# Altium schematic symbol library Driver_FET.SchLib: 194 symbols (part 1 of 2)
Pins are listed as number, name and electrical type; pins without a type are passive.

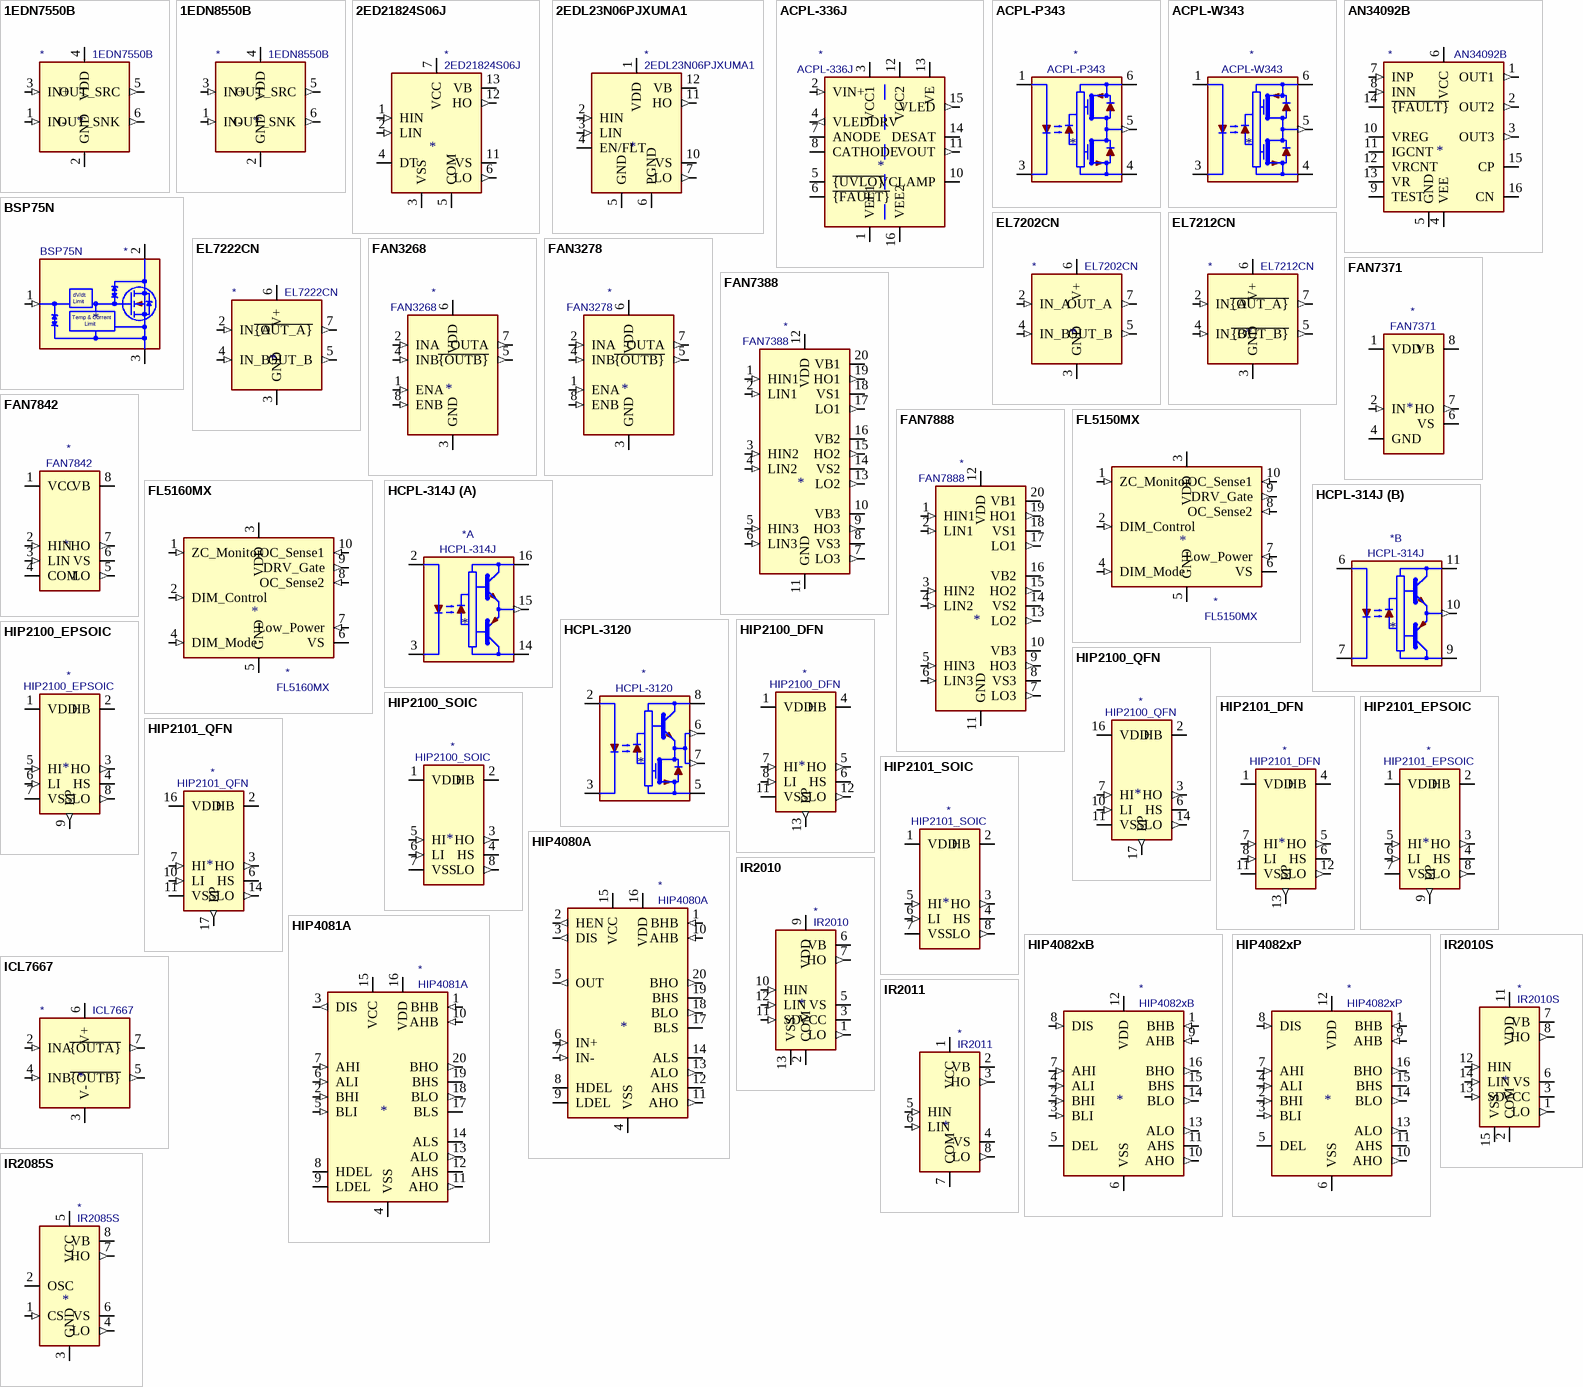
[diagram p0: symbols 1EDN7550B to IR2085S]

## 1EDN7550B
designator *  value 1EDN7550B
ki_keywords: Driver, Dual MOSFET; ki_description: Single-Channel EiceDRIVER With True Differential Inputs, 4V UVLO, +4/-8A, SOT-23-6; ki_fp_filters: SOT?23*; Footprint: Package_TO_SOT_SMD:SOT-23-6; Supplier: https://www.infineon.com/dgdl/Infineon-1EDN7550B-DS-v02_00-EN.pdf?fileId=5546d46262b31d2e01635d9799ef264f
footprint SOT-23-6
pins: 1 IN- (in), 2 GND (power), 3 IN+ (in), 4 VDD (power), 5 OUT_SRC (out), 6 OUT_SNK (out)

## 1EDN8550B
designator *  value 1EDN8550B
ki_keywords: Driver, Dual MOSFET; ki_description: Single-Channel EiceDRIVER With True Differential Inputs, 8V UVLO, +4/-8A, SOT-23-6; ki_fp_filters: SOT?23*; Footprint: Package_TO_SOT_SMD:SOT-23-6; Supplier: https://www.infineon.com/dgdl/Infineon-1EDN7550B-DS-v02_00-EN.pdf?fileId=5546d46262b31d2e01635d9799ef264f
footprint SOT-23-6
pins: 1 IN- (in), 2 GND (power), 3 IN+ (in), 4 VDD (power), 5 OUT_SRC (out), 6 OUT_SNK (out)

## 2ED21824S06J
designator *  value 2ED21824S06J
ki_keywords: Gate Driver MOSFET IGBT; ki_description: 650V Half Bridge Gate Driver with Integrated Bootstrap Diode, 2.5A drive current, SOIC-14; ki_fp_filters: SOIC*3.9x8.7mm*P1.27mm*; Footprint: Package_SO:SOIC-14_3.9x8.7mm_P1.27mm; Supplier: https://www.infineon.com/dgdl/Infineon-2ED2182-4-S06F-J-DataSheet-v02_10-EN.pdf?fileId=5546d4626cb27db2016cb8d7368a29e3
footprint SOIC-14_3.9x8.7mm_P1.27mm
pins: 1 HIN (in), 2 LIN (in), 3 VSS (power), 4 DT, 5 COM (power), 6 LO (out), 7 VCC (power), 8 NC (in) hidden, 9 NC (in) hidden, 10 NC (in) hidden, 11 VS, 12 HO (out), 13 VB, 14 NC (in) hidden

## 2EDL23N06PJXUMA1
designator *  value 2EDL23N06PJXUMA1
ki_keywords: Gate Driver MOSFET IGBT; ki_description: 600V Half Bridge Gate Driver with OCP and Integrated Bootstrap Diode, +1.8A/-2.5A drive current, SOIC-14; ki_fp_filters: SOIC*3.9x8.7mm*P1.27mm*; Footprint: Package_SO:SOIC-14_3.9x8.7mm_P1.27mm; Supplier: https://www.infineon.com/dgdl/Infineon-2EDL23x06xx-DS-v02_01-EN.pdf?fileId=5546d46146d18cb4014738a20c5236f0
footprint SOIC-14_3.9x8.7mm_P1.27mm
pins: 1 VDD (power), 2 HIN (in), 3 LIN (in), 4 EN/FLT (oc), 5 GND (power), 6 PGND (power), 7 LO (out), 8 NC (in) hidden, 9 NC (in) hidden, 10 VS, 11 HO (out), 12 VB, 13 NC (in) hidden, 14 NC (in) hidden

## ACPL-336J
designator *  value ACPL-336J
ki_keywords: Gate Driver IGBT; ki_description: 2.5A Gate Drive Optocoupler with Integrated LED Driver, Active Miller Clamp, DESAT Detection, and Fault & UVLO Status Feedback, SOIC-16; ki_fp_filters: SOIC*7.5x10.3*P1.27mm*; Footprint: Package_SO:SOIC-16W_7.5x10.3mm_P1.27mm; Supplier: https://docs.broadcom.com/docs/AV02-4391EN
footprint SOIC-16W_7.5x10.3mm_P1.27mm
pins: 1 VEE1 (power), 2 VIN+ (in), 3 VCC1 (power), 4 VLEDDRV (out), 5 ~{{UVLO}} (oc), 6 ~{{FAULT}} (oc), 7 ANODE, 8 CATHODE, 9 VEE2 hidden, 10 VCLAMP (io), 11 VOUT (out), 12 VCC2 (power), 13 VE (power), 14 DESAT (io), 15 VLED (out), 16 VEE2 (power)

## ACPL-P343
designator *  value ACPL-P343
ki_keywords: MOSFET Driver IGBT Driver Optocoupler; ki_description: Gate Drive Optocoupler, Output Current 4.0/4.0A, Propagation Delay 200ns, SSO-6; ki_fp_filters: SSO*6.8x4.6mm*P1.27mm*Clearance7mm*; Footprint: Package_SO:SSO-6_6.8x4.6mm_P1.27mm_Clearance7mm; Supplier: https://docs.broadcom.com/docs/AV02-2928EN
footprint SSO-6_6.8x4.6mm_P1.27mm_Clearance7mm
pins: 1 A, 2 NC (in) hidden, 3 C, 4 VEE (power), 5 VO (out), 6 VCC (power)

## ACPL-W343
designator *  value ACPL-W343
ki_keywords: MOSFET Driver IGBT Driver Optocoupler; ki_description: Gate Drive Optocoupler, Output Current 4.0/4.0A, Propagation Delay 200ns, SSO-6; ki_fp_filters: SSO*6.8x4.6mm*P1.27mm*Clearance8mm*; Footprint: Package_SO:SSO-6_6.8x4.6mm_P1.27mm_Clearance8mm; Supplier: http://www.avagotech.com/docs/AV02-2928EN
footprint SSO-6_6.8x4.6mm_P1.27mm_Clearance8mm
pins: 1 A, 2 NC (in) hidden, 3 C, 4 VEE (power), 5 VO (out), 6 VCC (power)

## AN34092B
designator *  value AN34092B
ki_keywords: GaN Gate Driver; ki_description: Single-Channel GaN-Tr High-Speed Gate Driver, Output Current 6.0A, 24V, -5V Negative Gate Voltage, HQFN-16; ki_fp_filters: Panasonic*HQFN*1EP*4x4mm*P0.65mm*EP2.9x2.9mm*; Footprint: Package_DFN_QFN:Panasonic_HQFN-16-1EP_4x4mm_P0.65mm_EP2.9x2.9mm; Supplier: https://industrial.panasonic.com/content/data/SC/ds/ds4/AN34092B_E.pdf
footprint Panasonic_HQFN-16-1EP_4x4mm_P0.65mm_EP2.9x2.9mm
pins: 1 OUT1 (out), 2 OUT2 (out), 3 OUT3 (out), 4 VEE (power), 5 GND (power), 6 VCC (power), 7 INP (in), 8 INN (in), 9 TEST, 10 VREG, 11 IGCNT, 12 VRCNT, 13 VR, 14 ~{{FAULT}} (oc), 15 CP, 16 CN, 17 GND hidden

## BSP75N
designator *  value BSP75N
ki_keywords: MOSFET ESD Overcurrent; ki_description: Self-Protected Low Side Driver with Temperature and Current Limit, SOT−223; ki_fp_filters: SOT?223*; Footprint: Package_TO_SOT_SMD:SOT-223; Supplier: https://www.infineon.com/dgdl/Infineon-BSP75N-DS-v01_04-en.pdf?fileId=db3a30431ed1d7b2011f471f5a0256d1
footprint SOT-223
pins: 1 G (in), 2 D, 3 S, 4 S hidden
text: dV/dt; Limit; Temp & Current

## EL7202CN
designator *  value EL7202CN
ki_keywords: Driver, Dual MOSFET; ki_description: High Speed, Dual Channel Power MOSFET Driver, DIP-8/SOIC-8; ki_fp_filters: DIP*W7.62mm* SOIC*3.9x4.9mm*P1.27mm*; Supplier: http://www.intersil.com/content/dam/Intersil/documents/el72/el7202-12-22.pdf
pins: 1 NC (in) hidden, 2 IN_A (in), 3 GND (power), 4 IN_B (in), 5 OUT_B (out), 6 V+ (power), 7 OUT_A (out), 8 NC (in) hidden

## EL7212CN
designator *  value EL7212CN
ki_keywords: Driver, Dual MOSFET; ki_description: High Speed, Dual Channel Power MOSFET Driver, DIP-8/SOIC-8; ki_fp_filters: DIP*W7.62mm* SOIC*P1.27mm*; Supplier: http://www.intersil.com/content/dam/Intersil/documents/el72/el7202-12-22.pdf
pins: 1 NC (in) hidden, 2 IN_A (in), 3 GND (power), 4 IN_B (in), 5 ~{{OUT_B}} (out), 6 V+ (power), 7 ~{{OUT_A}} (out), 8 NC (in) hidden

## EL7222CN
designator *  value EL7222CN
ki_keywords: Driver, Dual MOSFET; ki_description: High Speed, Dual Channel Power MOSFET Driver, DIP-8/SOIC-8; ki_fp_filters: DIP*W7.62mm* SOIC*P1.27mm*; Supplier: http://www.intersil.com/content/dam/Intersil/documents/el72/el7202-12-22.pdf
pins: 1 NC (in) hidden, 2 IN_A (in), 3 GND (power), 4 IN_B (in), 5 OUT_B (out), 6 V+ (power), 7 ~{{OUT_A}} (out), 8 NC (in) hidden

## FAN3268
designator *  value FAN3268
ki_keywords: Driver MOSFET; ki_description: Low-Voltage 18V PMOS-NMOS Bridge Driver, SOIC-8; ki_fp_filters: *SOIC*3.9x4.9mm*P1.27mm*; Footprint: Package_SO:SOIC-8_3.9x4.9mm_P1.27mm; Supplier: http://www.onsemi.com/pub/Collateral/FAN3268T_F085-D.PDF
footprint SOIC-8_3.9x4.9mm_P1.27mm
pins: 1 ENA (in), 2 INA (in), 3 GND (power), 4 INB (in), 5 ~{{OUTB}} (out), 6 VDD (power), 7 OUTA (out), 8 ENB (in)

## FAN3278
designator *  value FAN3278
ki_keywords: Driver MOSFET; ki_description: 8-27V PMOS-NMOS Bridge Driver, SOIC-8; ki_fp_filters: *SOIC*3.9x4.9mm*P1.27mm*; Footprint: Package_SO:SOIC-8_3.9x4.9mm_P1.27mm; Supplier: https://www.onsemi.com/pub/Collateral/FAN3278-D.pdf
footprint SOIC-8_3.9x4.9mm_P1.27mm
pins: 1 ENA (in), 2 INA (in), 3 GND (power), 4 INB (in), 5 ~{{OUTB}} (out), 6 VDD (power), 7 OUTA (out), 8 ENB (in)

## FAN7371
designator *  value FAN7371
ki_keywords: high-side gate driver; ki_description: High-Current High-Side Gate Driver, 600V Vs, 4A Io, SOIC-8; ki_fp_filters: SOIC*3.9x4.9mm*P1.27mm*; Footprint: Package_SO:SOIC-8_3.9x4.9mm_P1.27mm; Supplier: https://www.onsemi.com/pub/Collateral/FAN7371-D.pdf
footprint SOIC-8_3.9x4.9mm_P1.27mm
pins: 1 VDD (power), 2 IN (in), 3 NC (in) hidden, 4 GND (power), 5 NC (in) hidden, 6 VS, 7 HO (out), 8 VB

## FAN7388
designator *  value FAN7388
ki_keywords: 3 Phase Gate Driver; ki_description: 3 Half-Bridge Gate-Drive IC, 600V operation, Output Current 350/650mA, SOIC-20; ki_fp_filters: SOIC*7.5x12.8*P1.27mm*; Footprint: Package_SO:SOIC-20W_7.5x12.8mm_P1.27mm; Supplier: https://www.onsemi.com/pub/Collateral/FAN7388-D.pdf
footprint SOIC-20W_7.5x12.8mm_P1.27mm
pins: 1 HIN1 (in), 2 LIN1 (in), 3 HIN2 (in), 4 LIN2 (in), 5 HIN3 (in), 6 LIN3 (in), 7 LO3 (out), 8 VS3, 9 HO3 (out), 10 VB3, 11 GND (power), 12 VDD (power), 13 LO2 (out), 14 VS2, 15 HO2 (out), 16 VB2, 17 LO1 (out), 18 VS1, 19 HO1 (out), 20 VB1

## FAN7842
designator *  value FAN7842
ki_keywords: Gate Driver; ki_description: High and Low Side Gate Driver, 200V operation, Output Current 350/650mA, SOIC-8; ki_fp_filters: SOIC*3.9x4.9mm*P1.27mm*; Footprint: Package_SO:SOIC-8_3.9x4.9mm_P1.27mm; Supplier: http://www.onsemi.com/pub/Collateral/FAN7842-D.pdf
footprint SOIC-8_3.9x4.9mm_P1.27mm
pins: 1 VCC (power), 2 HIN (in), 3 LIN (in), 4 COM (power), 5 LO (out), 6 VS, 7 HO (out), 8 VB

## FAN7888
designator *  value FAN7888
ki_keywords: 3 Phase Gate Driver; ki_description: 3 Half-Bridge Gate-Drive IC, 200V operation, Output Current 350/650mA, SOIC-20; ki_fp_filters: SOIC*7.5x12.8*P1.27mm*; Footprint: Package_SO:SOIC-20W_7.5x12.8mm_P1.27mm; Supplier: http://www.onsemi.com/pub/Collateral/FAN7888-D.pdf
footprint SOIC-20W_7.5x12.8mm_P1.27mm
pins: 1 HIN1 (in), 2 LIN1 (in), 3 HIN2 (in), 4 LIN2 (in), 5 HIN3 (in), 6 LIN3 (in), 7 LO3 (out), 8 VS3, 9 HO3 (out), 10 VB3, 11 GND (power), 12 VDD (power), 13 LO2 (out), 14 VS2, 15 HO2 (out), 16 VB2, 17 LO1 (out), 18 VS1, 19 HO1 (out), 20 VB1

## FL5150MX
designator *  value FL5150MX
ki_keywords: dimmer; ki_description: IGBT and MOSFET, AC Phase Cut, Dimmer Controller, SSOP-10; ki_fp_filters: SSOP?10?3.9x4.9mm*1.00mm*; Footprint: Package_SO:SSOP-10_3.9x4.9mm_P1.00mm; Supplier: https://www.onsemi.com/pub/Collateral/FL5150-D.pdf
footprint SSOP-10_3.9x4.9mm_P1.00mm
pins: 1 ZC_Monitor (in), 2 DIM_Control (in), 3 VDD (power), 4 DIM_Mode (in), 5 GND (power), 6 VS (power), 7 Low_Power (in), 8 OC_Sense2 (in), 9 DRV_Gate (out), 10 OC_Sense1 (in)

## FL5160MX
designator *  value FL5160MX
ki_keywords: dimmer; ki_description: IGBT and MOSFET, AC Phase Cut, Dimmer Controller, SSOP-10; ki_fp_filters: SSOP?10?3.9x4.9mm*1.00mm*; Footprint: Package_SO:SSOP-10_3.9x4.9mm_P1.00mm; Supplier: https://www.onsemi.com/pub/Collateral/FL5150-D.pdf
footprint SSOP-10_3.9x4.9mm_P1.00mm
pins: 1 ZC_Monitor (in), 2 DIM_Control (in), 3 VDD (power), 4 DIM_Mode (in), 5 GND (power), 6 VS (power), 7 Low_Power (in), 8 OC_Sense2 (in), 9 DRV_Gate (out), 10 OC_Sense1 (in)

## HCPL-314J
designator *  value HCPL-314J
ki_keywords: MOSFET Driver IGBT Driver Optocoupler; ki_description: Gate Drive Optocoupler, Output Current 0.4/0.4A, SOIC-16(12); ki_fp_filters: SOIC*16*12*7.5x10.3mm*P1.27mm*; Footprint: Package_SO:SOIC-16W-12_7.5x10.3mm_P1.27mm; Supplier: https://docs.broadcom.com/docs/AV02-0169EN
footprint SOIC-16W-12_7.5x10.3mm_P1.27mm
part A pins: 1 NC (in) hidden, 2 A, 3 C, 14 VEE (power), 15 VO (out), 16 VCC (power)
part B pins: 6 A, 7 C, 8 NC (in) hidden, 9 VEE (power), 10 VO (out), 11 VCC (power)

## HCPL-3120
designator *  value HCPL-3120
ki_keywords: MOSFET Driver IGBT Driver Optocoupler; ki_description: Gate Drive Optocoupler, Output Current 2.5/2.5A, PDIP-8; ki_fp_filters: DIP*W7.62mm*; Footprint: Package_DIP:DIP-8_W7.62mm; Supplier: https://docs.broadcom.com/docs/AV02-0161EN
footprint DIP-8_W7.62mm
pins: 1 NC (in) hidden, 2 A, 3 C, 4 NC (in) hidden, 5 VEE (power), 6 VO (out), 7 VO (out), 8 VCC (power)

## HIP2100_DFN
designator *  value HIP2100_DFN
ki_keywords: Half Bridge Gate Driver; ki_description: High Frequency Half Bridge Driver, Output Current 2.0A, 100V, DFN-8; ki_fp_filters: DFN*1EP*4x4mm*P0.5mm*; Footprint: Package_DFN_QFN:DFN-12-1EP_4x4mm_P0.5mm_EP2.66x3.38mm; Supplier: http://www.intersil.com/content/dam/Intersil/documents/hip2/hip2100.pdf
footprint DFN-12-1EP_4x4mm_P0.5mm_EP2.66x3.38mm
pins: 1 VDD (power), 2 NC (in) hidden, 3 NC (in) hidden, 4 HB, 5 HO (out), 6 HS, 7 HI (in), 8 LI (in), 9 NC (in) hidden, 10 NC (in) hidden, 11 VSS (power), 12 LO (out), 13 EP (out)

## HIP2100_EPSOIC
designator *  value HIP2100_EPSOIC
ki_keywords: Half Bridge Gate Driver; ki_description: High Frequency Half Bridge Driver, Output Current 2.0A, 100V, EPSOIC-8; ki_fp_filters: SOIC*1EP*3.9x4.9mm*P1.27mm*; Footprint: Package_SO:SOIC-8-1EP_3.9x4.9mm_P1.27mm_EP2.514x3.2mm; Supplier: http://www.intersil.com/content/dam/Intersil/documents/hip2/hip2100.pdf
footprint SOIC-8-1EP_3.9x4.9mm_P1.27mm_EP2.514x3.2mm
pins: 1 VDD (power), 2 HB, 3 HO (out), 4 HS, 5 HI (in), 6 LI (in), 7 VSS (power), 8 LO (out), 9 EP (out)

## HIP2100_QFN
designator *  value HIP2100_QFN
ki_keywords: Half Bridge Gate Driver; ki_description: High Frequency Half Bridge Driver, Output Current 2.0A, 100V, QFN-16; ki_fp_filters: QFN*1EP*5x5mm*P0.8mm*; Footprint: Package_DFN_QFN:QFN-16-1EP_5x5mm_P0.8mm_EP2.7x2.7mm; Supplier: http://www.intersil.com/content/dam/Intersil/documents/hip2/hip2100.pdf
footprint QFN-16-1EP_5x5mm_P0.8mm_EP2.7x2.7mm
pins: 1 NC (in) hidden, 2 HB, 3 HO (out), 4 NC (in) hidden, 5 NC (in) hidden, 6 HS, 7 HI (in), 8 NC (in) hidden, 9 NC (in) hidden, 10 LI (in), 11 VSS (power), 12 NC (in) hidden, 13 NC (in) hidden, 14 LO (out), 15 NC (in) hidden, 16 VDD (power), 17 EP (out)

## HIP2100_SOIC
designator *  value HIP2100_SOIC
ki_keywords: Half Bridge Gate Driver; ki_description: High Frequency Half Bridge Driver, Output Current 2.0A, 100V, SOIC-8; ki_fp_filters: SOIC*3.9x4.9mm*P1.27mm*; Footprint: Package_SO:SOIC-8_3.9x4.9mm_P1.27mm; Supplier: http://www.intersil.com/content/dam/Intersil/documents/hip2/hip2100.pdf
footprint SOIC-8_3.9x4.9mm_P1.27mm
pins: 1 VDD (power), 2 HB, 3 HO (out), 4 HS, 5 HI (in), 6 LI (in), 7 VSS (power), 8 LO (out)

## HIP2101_DFN
designator *  value HIP2101_DFN
ki_keywords: Half Bridge Gate Driver; ki_description: High Frequency Half Bridge Driver, TTL/CMOS inputs, Output Current 2.0A, 100V, DFN-8; ki_fp_filters: DFN*1EP*4x4mm*P0.5mm*; Footprint: Package_DFN_QFN:DFN-12-1EP_4x4mm_P0.5mm_EP2.66x3.38mm; Supplier: http://www.intersil.com/content/dam/Intersil/documents/hip2/hip2101.pdf
footprint DFN-12-1EP_4x4mm_P0.5mm_EP2.66x3.38mm
pins: 1 VDD (power), 2 NC (in) hidden, 3 NC (in) hidden, 4 HB, 5 HO (out), 6 HS, 7 HI (in), 8 LI (in), 9 NC (in) hidden, 10 NC (in) hidden, 11 VSS (power), 12 LO (out), 13 EP (out)

## HIP2101_EPSOIC
designator *  value HIP2101_EPSOIC
ki_keywords: Half Bridge Gate Driver; ki_description: High Frequency Half Bridge Driver, TTL/CMOS inputs, Output Current 2.0A, 100V, EPSOIC-8; ki_fp_filters: SOIC*1EP*3.9x4.9mm*P1.27mm*; Footprint: Package_SO:SOIC-8-1EP_3.9x4.9mm_P1.27mm_EP2.514x3.2mm; Supplier: http://www.intersil.com/content/dam/Intersil/documents/hip2/hip2101.pdf
footprint SOIC-8-1EP_3.9x4.9mm_P1.27mm_EP2.514x3.2mm
pins: 1 VDD (power), 2 HB, 3 HO (out), 4 HS, 5 HI (in), 6 LI (in), 7 VSS (power), 8 LO (out), 9 EP (out)

## HIP2101_QFN
designator *  value HIP2101_QFN
ki_keywords: Half Bridge Gate Driver; ki_description: High Frequency Half Bridge Driver, TTL/CMOS inputs, Output Current 2.0A, 100V, QFN-16; ki_fp_filters: QFN*1EP*5x5mm*P0.8mm*; Footprint: Package_DFN_QFN:QFN-16-1EP_5x5mm_P0.8mm_EP2.7x2.7mm; Supplier: http://www.intersil.com/content/dam/Intersil/documents/hip2/hip2101.pdf
footprint QFN-16-1EP_5x5mm_P0.8mm_EP2.7x2.7mm
pins: 1 NC (in) hidden, 2 HB, 3 HO (out), 4 NC (in) hidden, 5 NC (in) hidden, 6 HS, 7 HI (in), 8 NC (in) hidden, 9 NC (in) hidden, 10 LI (in), 11 VSS (power), 12 NC (in) hidden, 13 NC (in) hidden, 14 LO (out), 15 NC (in) hidden, 16 VDD (power), 17 EP (out)

## HIP2101_SOIC
designator *  value HIP2101_SOIC
ki_keywords: Half Bridge Gate Driver; ki_description: High Frequency Half Bridge Driver, TTL/CMOS inputs, Output Current 2.0A, 100V, SOIC-8; ki_fp_filters: SOIC*3.9x4.9mm*P1.27mm*; Footprint: Package_SO:SOIC-8_3.9x4.9mm_P1.27mm; Supplier: http://www.intersil.com/content/dam/Intersil/documents/hip2/hip2101.pdf
footprint SOIC-8_3.9x4.9mm_P1.27mm
pins: 1 VDD (power), 2 HB, 3 HO (out), 4 HS, 5 HI (in), 6 LI (in), 7 VSS (power), 8 LO (out)

## HIP4080A
designator *  value HIP4080A
ki_keywords: Half Bridge Gate Driver; ki_description: High Frequency Full Bridge FET Driver, Input Comparator, 2.5A, 80V, DIP-20/SOIC-20; ki_fp_filters: SOIC*7.5x12.8mm*P1.27mm* DIP*W7.62mm*; Supplier: http://www.intersil.com/content/dam/Intersil/documents/hip4/hip4080a.pdf
pins: 1 BHB (in), 2 HEN (out), 3 DIS (out), 4 VSS (power), 5 OUT (out), 6 IN+ (in), 7 IN- (in), 8 HDEL, 9 LDEL, 10 AHB (in), 11 AHO (out), 12 AHS, 13 ALO (out), 14 ALS, 15 VCC (power), 16 VDD (power), 17 BLS, 18 BLO (out), 19 BHS, 20 BHO (out)

## HIP4081A
designator *  value HIP4081A
ki_keywords: Half Bridge Gate Driver; ki_description: High Frequency Full Bridge FET Driver, 2.5A, 80V, DIP-20/SOIC-20; ki_fp_filters: SOIC*7.5x12.8mm*P1.27mm* DIP*W7.62mm*; Supplier: http://www.intersil.com/content/dam/Intersil/documents/hip4/hip4080a.pdf
pins: 1 BHB (in), 2 BHI (in), 3 DIS (out), 4 VSS (power), 5 BLI (in), 6 ALI (in), 7 AHI (in), 8 HDEL, 9 LDEL, 10 AHB (in), 11 AHO (out), 12 AHS, 13 ALO (out), 14 ALS, 15 VCC (power), 16 VDD (power), 17 BLS, 18 BLO (out), 19 BHS, 20 BHO (out)

## HIP4082xB
designator *  value HIP4082xB
ki_keywords: Driver H-bridge; ki_description: 80V, 1.25A Peak Current H-Bridge FET Driver, SOIC-16; ki_fp_filters: SOIC*3.9x9.9mm*P1.27mm*; Footprint: Package_SO:SOIC-16_3.9x9.9mm_P1.27mm; Supplier: https://www.renesas.com/www/doc/datasheet/hip4082.pdf
footprint SOIC-16_3.9x9.9mm_P1.27mm
pins: 1 BHB (in), 2 BHI (in), 3 BLI (in), 4 ALI (in), 5 DEL, 6 VSS (power), 7 AHI (in), 8 DIS (in), 9 AHB (in), 10 AHO (out), 11 AHS, 12 VDD (power), 13 ALO (out), 14 BLO (out), 15 BHS, 16 BHO (out)

## HIP4082xP
designator *  value HIP4082xP
ki_keywords: Driver H-bridge; ki_description: 80V, 1.25A Peak Current H-Bridge FET Driver, DIP-16; ki_fp_filters: DIP*W7.62mm*; Footprint: Package_DIP:DIP-16_W7.62mm; Supplier: https://www.renesas.com/www/doc/datasheet/hip4082.pdf
footprint DIP-16_W7.62mm
pins: 1 BHB (in), 2 BHI (in), 3 BLI (in), 4 ALI (in), 5 DEL, 6 VSS (power), 7 AHI (in), 8 DIS (in), 9 AHB (in), 10 AHO (out), 11 AHS, 12 VDD (power), 13 ALO (out), 14 BLO (out), 15 BHS, 16 BHO (out)

## ICL7667
designator *  value ICL7667
ki_keywords: MOSFET driver array; ki_description: Dual Power MOSFET Driver, DIP-8/SOIC-8; ki_fp_filters: DIP*W7.62mm* SOIC*3.9x4.9mm*P1.27mm*; Supplier: http://www.intersil.com/content/dam/Intersil/documents/icl7/icl7667.pdf
pins: 1 NC (in) hidden, 2 INA (in), 3 V- (power), 4 INB (in), 5 ~{{OUTB}} (out), 6 V+ (power), 7 ~{{OUTA}} (out), 8 NC (in) hidden

## IR2010
designator *  value IR2010
ki_keywords: Gate Driver; ki_description: High and Low Side Driver, 200V, 3.0/3.0A, PDIP-14; ki_fp_filters: DIP*W7.62mm*; Footprint: Package_DIP:DIP-14_W7.62mm; Supplier: https://www.infineon.com/dgdl/ir2010.pdf?fileId=5546d462533600a4015355c48f901660
footprint DIP-14_W7.62mm
pins: 1 LO (out), 2 COM (power), 3 VCC (power), 4 NC (in) hidden, 5 VS, 6 VB, 7 HO (out), 8 NC (in) hidden, 9 VDD (power), 10 HIN (in), 11 SD (in), 12 LIN (in), 13 VSS (power), 14 NC (in) hidden

## IR2010S
designator *  value IR2010S
ki_keywords: Gate Driver; ki_description: High and Low Side Driver, 200V, 3.0/3.0A, SOIC-16W; ki_fp_filters: SOIC*7.5x10.3mm*P1.27mm*; Footprint: Package_SO:SOIC-16W_7.5x10.3mm_P1.27mm; Supplier: https://www.infineon.com/dgdl/ir2010.pdf?fileId=5546d462533600a4015355c48f901660
footprint SOIC-16W_7.5x10.3mm_P1.27mm
pins: 1 LO (out), 2 COM (power), 3 VCC (power), 4 NC (in) hidden, 5 NC (in) hidden, 6 VS, 7 VB, 8 HO (out), 9 NC (in) hidden, 10 NC (in) hidden, 11 VDD (power), 12 HIN (in), 13 SD (in), 14 LIN (in), 15 VSS (power), 16 NC (in) hidden

## IR2011
designator *  value IR2011
ki_keywords: Gate Driver; ki_description: High and Low Side Driver, 200V, 1.0/1.0A, PDIP-8/SOIC-8; ki_fp_filters: SOIC*3.9x4.9mm*P1.27mm* DIP*W7.62mm*; Supplier: https://www.infineon.com/dgdl/ir2011.pdf?fileId=5546d462533600a4015355c49b831663
pins: 1 VCC (power), 2 VB, 3 HO (out), 4 VS, 5 HIN (in), 6 LIN (in), 7 COM (power), 8 LO (out)

## IR2085S
designator *  value IR2085S
ki_keywords: Oscillating Gate Driver; ki_description: High Speed, 100V, Self Oscillating 50% Duty Cycle, Half-Bridge Driver, 1.0/1.0A, SOIC-8; ki_fp_filters: SOIC*3.9x4.9mm*P1.27mm*; Footprint: Package_SO:SOIC-8_3.9x4.9mm_P1.27mm; Supplier: https://www.infineon.com/dgdl/Infineon-IR2085S-DS-v01_02-EN.pdf?fileId=5546d4625b62cd8a015bb0f752184828
footprint SOIC-8_3.9x4.9mm_P1.27mm
pins: 1 CS (in), 2 OSC, 3 GND (power), 4 LO (out), 5 VCC (power), 6 VS, 7 HO (out), 8 VB

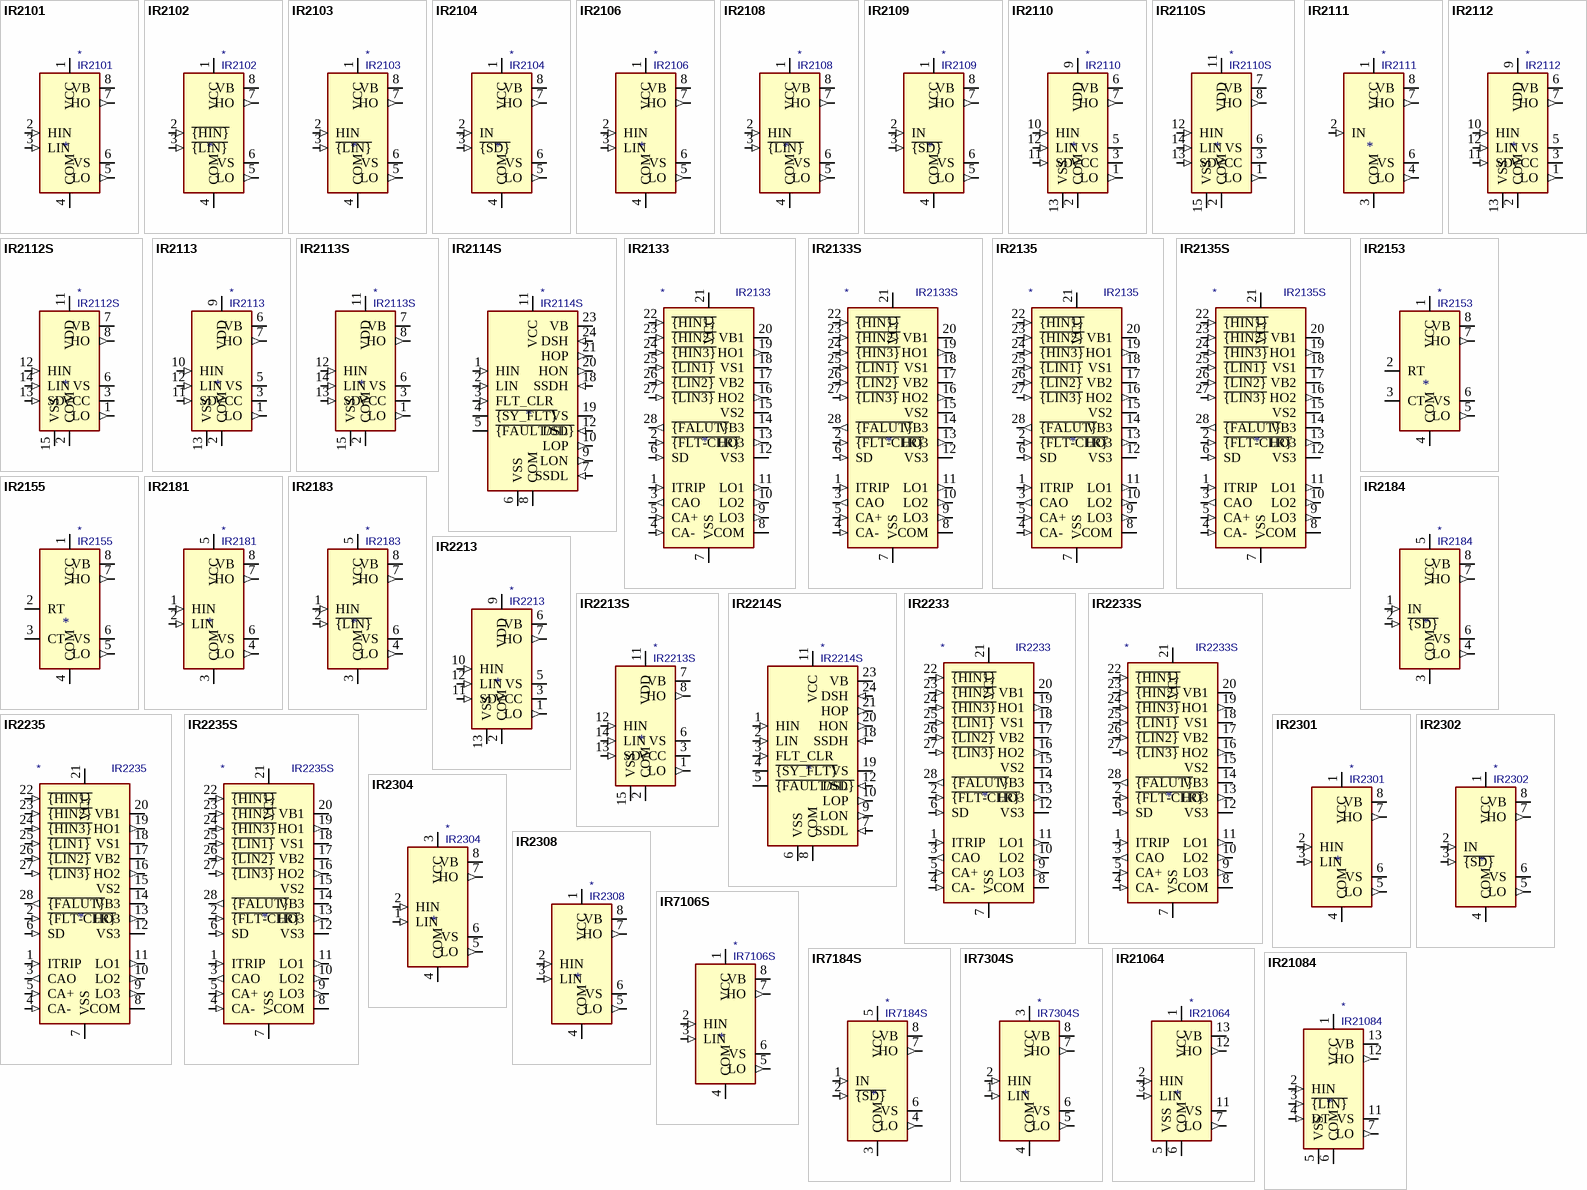
[diagram p1: symbols IR2101 to IR21084]

## IR2101
designator *  value IR2101
ki_keywords: Gate Driver; ki_description: High and Low Side Driver, 600V, 210/360mA, PDIP-8/SOIC-8; ki_fp_filters: SOIC*3.9x4.9mm*P1.27mm* DIP*W7.62mm*; Supplier: https://www.infineon.com/dgdl/ir2101.pdf?fileId=5546d462533600a4015355c7a755166c
pins: 1 VCC (power), 2 HIN (in), 3 LIN (in), 4 COM (power), 5 LO (out), 6 VS, 7 HO (out), 8 VB

## IR2102
designator *  value IR2102
ki_keywords: Gate Driver; ki_description: High and Low Side Driver, 600V, 210/360mA, PDIP-8/SOIC-8; ki_fp_filters: SOIC*3.9x4.9mm*P1.27mm* DIP*W7.62mm*; Supplier: https://www.infineon.com/dgdl/ir2101.pdf?fileId=5546d462533600a4015355c7a755166c
pins: 1 VCC (power), 2 ~{{HIN}} (in), 3 ~{{LIN}} (in), 4 COM (power), 5 LO (out), 6 VS, 7 HO (out), 8 VB

## IR2103
designator *  value IR2103
ki_keywords: Gate Driver; ki_description: Half-Bridge Driver, 600V, 210/360mA, PDIP-8/SOIC-8; ki_fp_filters: SOIC*3.9x4.9mm*P1.27mm* DIP*W7.62mm*; Supplier: https://www.infineon.com/dgdl/ir2103.pdf?fileId=5546d462533600a4015355c7b54b166f
pins: 1 VCC (power), 2 HIN (in), 3 ~{{LIN}} (in), 4 COM (power), 5 LO (out), 6 VS, 7 HO (out), 8 VB

## IR2104
designator *  value IR2104
ki_keywords: Gate Driver; ki_description: Half-Bridge Driver, 600V, 210/360mA, PDIP-8/SOIC-8; ki_fp_filters: SOIC*3.9x4.9mm*P1.27mm* DIP*W7.62mm*; Supplier: https://www.infineon.com/dgdl/ir2104.pdf?fileId=5546d462533600a4015355c7c1c31671
pins: 1 VCC (power), 2 IN (in), 3 ~{{SD}} (in), 4 COM (power), 5 LO (out), 6 VS, 7 HO (out), 8 VB

## IR2106
designator *  value IR2106
ki_keywords: Gate Driver; ki_description: High and Low Side Driver, 600V, 200/350mA, PDIP-8/SOIC-8; ki_fp_filters: SOIC*3.9x4.9mm*P1.27mm* DIP*W7.62mm*; Supplier: https://www.infineon.com/dgdl/ir2106.pdf?fileId=5546d462533600a4015355c7cfc51673
pins: 1 VCC (power), 2 HIN (in), 3 LIN (in), 4 COM (power), 5 LO (out), 6 VS, 7 HO (out), 8 VB

## IR2108
designator *  value IR2108
ki_keywords: Gate Driver; ki_description: Half-Bridge Driver, 600V, 210/350mA, PDIP-8/SOIC-8; ki_fp_filters: SOIC*3.9x4.9mm*P1.27mm* DIP*W7.62mm*; Supplier: https://www.infineon.com/dgdl/ir2108.pdf?fileId=5546d462533600a4015355c7dc321676
pins: 1 VCC (power), 2 HIN (in), 3 ~{{LIN}} (in), 4 COM (power), 5 LO (out), 6 VS, 7 HO (out), 8 VB

## IR2109
designator *  value IR2109
ki_keywords: Gate Driver; ki_description: Half-Bridge Driver, 600V, 200/350mA, PDIP-8/SOIC-8; ki_fp_filters: SOIC*3.9x4.9mm*P1.27mm* DIP*W7.62mm*; Supplier: https://www.infineon.com/dgdl/ir2109.pdf?fileId=5546d462533600a4015355c7e85b1679
pins: 1 VCC (power), 2 IN (in), 3 ~{{SD}} (in), 4 COM (power), 5 LO (out), 6 VS, 7 HO (out), 8 VB

## IR2110
designator *  value IR2110
ki_keywords: Gate Driver; ki_description: High and Low Side Driver, 500V, 2.0/2.0A, PDIP-14; ki_fp_filters: DIP*W7.62mm*; Footprint: Package_DIP:DIP-14_W7.62mm; Supplier: https://www.infineon.com/dgdl/ir2110.pdf?fileId=5546d462533600a4015355c80333167e
footprint DIP-14_W7.62mm
pins: 1 LO (out), 2 COM (power), 3 VCC (power), 4 NC (in) hidden, 5 VS, 6 VB, 7 HO (out), 8 NC (in) hidden, 9 VDD (power), 10 HIN (in), 11 SD (in), 12 LIN (in), 13 VSS (power), 14 NC (in) hidden

## IR2110S
designator *  value IR2110S
ki_keywords: Gate Driver; ki_description: High and Low Side Driver, 500V, 2.0/2.0A, SOIC-16W; ki_fp_filters: SOIC*7.5x10.3mm*P1.27mm*; Footprint: Package_SO:SOIC-16W_7.5x10.3mm_P1.27mm; Supplier: https://www.infineon.com/dgdl/ir2110.pdf?fileId=5546d462533600a4015355c80333167e
footprint SOIC-16W_7.5x10.3mm_P1.27mm
pins: 1 LO (out), 2 COM (power), 3 VCC (power), 4 NC (in) hidden, 5 NC (in) hidden, 6 VS, 7 VB, 8 HO (out), 9 NC (in) hidden, 10 NC (in) hidden, 11 VDD (power), 12 HIN (in), 13 SD (in), 14 LIN (in), 15 VSS (power), 16 NC (in) hidden

## IR2111
designator *  value IR2111
ki_keywords: Gate Driver; ki_description: Half-Bridge Driver, 600V, 250/500mA, PDIP-8/SOIC-8; ki_fp_filters: SOIC*3.9x4.9mm*P1.27mm* DIP*W7.62mm*; Supplier: https://www.infineon.com/dgdl/ir2111.pdf?fileId=5546d462533600a4015355c810e51682
pins: 1 VCC (power), 2 IN (in), 3 COM (power), 4 LO (out), 5 NC (in) hidden, 6 VS, 7 HO (out), 8 VB

## IR2112
designator *  value IR2112
ki_keywords: Gate Driver; ki_description: High and Low Side Driver, 600V, 250/500mA, PDIP-14; ki_fp_filters: DIP*W7.62mm*; Footprint: Package_DIP:DIP-14_W7.62mm; Supplier: https://www.infineon.com/dgdl/ir2112.pdf?fileId=5546d462533600a4015355c81cb71685
footprint DIP-14_W7.62mm
pins: 1 LO (out), 2 COM (power), 3 VCC (power), 4 NC (in) hidden, 5 VS, 6 VB, 7 HO (out), 8 NC (in) hidden, 9 VDD (power), 10 HIN (in), 11 SD (in), 12 LIN (in), 13 VSS (power), 14 NC (in) hidden

## IR2112S
designator *  value IR2112S
ki_keywords: Gate Driver; ki_description: High and Low Side Driver, 500V, 250/500mA, SOIC-16W; ki_fp_filters: SOIC*7.5x10.3mm*P1.27mm*; Footprint: Package_SO:SOIC-16W_7.5x10.3mm_P1.27mm; Supplier: https://www.infineon.com/dgdl/ir2112.pdf?fileId=5546d462533600a4015355c81cb71685
footprint SOIC-16W_7.5x10.3mm_P1.27mm
pins: 1 LO (out), 2 COM (power), 3 VCC (power), 4 NC (in) hidden, 5 NC (in) hidden, 6 VS, 7 VB, 8 HO (out), 9 NC (in) hidden, 10 NC (in) hidden, 11 VDD (power), 12 HIN (in), 13 SD (in), 14 LIN (in), 15 VSS (power), 16 NC (in) hidden

## IR2113
designator *  value IR2113
ki_keywords: Gate Driver; ki_description: High and Low Side Driver, 600V, 2.0/2.0A, PDIP-14; ki_fp_filters: DIP*W7.62mm*; Footprint: Package_DIP:DIP-14_W7.62mm; Supplier: https://www.infineon.com/dgdl/ir2110.pdf?fileId=5546d462533600a4015355c80333167e
footprint DIP-14_W7.62mm
pins: 1 LO (out), 2 COM (power), 3 VCC (power), 4 NC (in) hidden, 5 VS, 6 VB, 7 HO (out), 8 NC (in) hidden, 9 VDD (power), 10 HIN (in), 11 SD (in), 12 LIN (in), 13 VSS (power), 14 NC (in) hidden

## IR2113S
designator *  value IR2113S
ki_keywords: Gate Driver; ki_description: High and Low Side Driver, 500V, 2.0/2.0A, SOIC-16W; ki_fp_filters: SOIC*7.5x10.3mm*P1.27mm*; Footprint: Package_SO:SOIC-16W_7.5x10.3mm_P1.27mm; Supplier: https://www.infineon.com/dgdl/ir2110.pdf?fileId=5546d462533600a4015355c80333167e
footprint SOIC-16W_7.5x10.3mm_P1.27mm
pins: 1 LO (out), 2 COM (power), 3 VCC (power), 4 NC (in) hidden, 5 NC (in) hidden, 6 VS, 7 VB, 8 HO (out), 9 NC (in) hidden, 10 NC (in) hidden, 11 VDD (power), 12 HIN (in), 13 SD (in), 14 LIN (in), 15 VSS (power), 16 NC (in) hidden

## IR2114S
designator *  value IR2114S
ki_keywords: Gate Driver; ki_description: Half-Bridge Gate Driver IC, 600V, 1.0/1.5A, SSOP-24; ki_fp_filters: SSOP*5.3x8.2mm*P0.65mm*; Footprint: Package_SO:SSOP-24_5.3x8.2mm_P0.65mm; Supplier: https://www.infineon.com/dgdl/ir2114ss.pdf?fileId=5546d462533600a4015355c836cd168a
footprint SSOP-24_5.3x8.2mm_P0.65mm
pins: 1 HIN (in), 2 LIN (in), 3 FLT_CLR (in), 4 ~{{SY_FLT}} (io), 5 ~{{FAULT/SD}} (io), 6 VSS (power), 7 SSDL (in), 8 COM (power), 9 LON (out), 10 LOP (out), 11 VCC (power), 12 DSL (in), 13 NC (in) hidden, 14 NC (in) hidden, 15 NC (in) hidden, 16 NC (in) hidden, 17 NC (in) hidden, 18 SSDH (in), 19 VS, 20 HON (out), 21 HOP (out), 22 NC (in) hidden, 23 VB, 24 DSH (in)

## IR2133
designator *  value IR2133
ki_keywords: 3 Phase Gate Driver; ki_description: 600V, Vout 10-20V, PDIP-28; ki_fp_filters: DIP*W15.24mm*; Footprint: Package_DIP:DIP-28_W15.24mm; Supplier: https://www.infineon.com/dgdl/Infineon-IR2x33-IR2x35-DataSheet-v01_00-EN.pdf?fileId=5546d462533600a4015355c890ba169f
footprint DIP-28_W15.24mm
pins: 1 ITRIP (in), 2 ~{{FLT-CLR}} (in), 3 CAO (out), 4 CA- (in), 5 CA+ (in), 6 SD (in), 7 VSS (power), 8 COM, 9 LO3 (out), 10 LO2 (out), 11 LO1 (out), 12 VS3, 13 HO3 (out), 14 VB3, 15 VS2, 16 HO2 (out), 17 VB2, 18 VS1, 19 HO1 (out), 20 VB1, 21 VCC (power), 22 ~{{HIN1}} (in), 23 ~{{HIN2}} (in), 24 ~{{HIN3}} (in), 25 ~{{LIN1}} (in), 26 ~{{LIN2}} (in), 27 ~{{LIN3}} (in), 28 ~{{FALUT}} (out)

## IR2133S
designator *  value IR2133S
ki_keywords: 3 Phase Gate Driver; ki_description: 600V, Vout 10-20V, SOIC-28; ki_fp_filters: SOIC*7.5x17.9mm*P1.27mm*; Footprint: Package_SO:SOIC-28W_7.5x17.9mm_P1.27mm; Supplier: https://www.infineon.com/dgdl/Infineon-IR2x33-IR2x35-DataSheet-v01_00-EN.pdf?fileId=5546d462533600a4015355c890ba169f
footprint SOIC-28W_7.5x17.9mm_P1.27mm
pins: 1 ITRIP (in), 2 ~{{FLT-CLR}} (in), 3 CAO (out), 4 CA- (in), 5 CA+ (in), 6 SD (in), 7 VSS (power), 8 COM, 9 LO3 (out), 10 LO2 (out), 11 LO1 (out), 12 VS3, 13 HO3 (out), 14 VB3, 15 VS2, 16 HO2 (out), 17 VB2, 18 VS1, 19 HO1 (out), 20 VB1, 21 VCC (power), 22 ~{{HIN1}} (in), 23 ~{{HIN2}} (in), 24 ~{{HIN3}} (in), 25 ~{{LIN1}} (in), 26 ~{{LIN2}} (in), 27 ~{{LIN3}} (in), 28 ~{{FALUT}} (out)

## IR2135
designator *  value IR2135
ki_keywords: 3 Phase Gate Driver; ki_description: 600V, Vout 12-20V, PDIP-28; ki_fp_filters: DIP*W15.24mm*; Footprint: Package_DIP:DIP-28_W15.24mm; Supplier: https://www.infineon.com/dgdl/Infineon-IR2x33-IR2x35-DataSheet-v01_00-EN.pdf?fileId=5546d462533600a4015355c890ba169f
footprint DIP-28_W15.24mm
pins: 1 ITRIP (in), 2 ~{{FLT-CLR}} (in), 3 CAO (out), 4 CA- (in), 5 CA+ (in), 6 SD (in), 7 VSS (power), 8 COM, 9 LO3 (out), 10 LO2 (out), 11 LO1 (out), 12 VS3, 13 HO3 (out), 14 VB3, 15 VS2, 16 HO2 (out), 17 VB2, 18 VS1, 19 HO1 (out), 20 VB1, 21 VCC (power), 22 ~{{HIN1}} (in), 23 ~{{HIN2}} (in), 24 ~{{HIN3}} (in), 25 ~{{LIN1}} (in), 26 ~{{LIN2}} (in), 27 ~{{LIN3}} (in), 28 ~{{FALUT}} (out)

## IR2135S
designator *  value IR2135S
ki_keywords: 3 Phase Gate Driver; ki_description: 600V, Vout 12-20V, SOIC-28; ki_fp_filters: SOIC*7.5x17.9mm*P1.27mm*; Footprint: Package_SO:SOIC-28W_7.5x17.9mm_P1.27mm; Supplier: https://www.infineon.com/dgdl/Infineon-IR2x33-IR2x35-DataSheet-v01_00-EN.pdf?fileId=5546d462533600a4015355c890ba169f
footprint SOIC-28W_7.5x17.9mm_P1.27mm
pins: 1 ITRIP (in), 2 ~{{FLT-CLR}} (in), 3 CAO (out), 4 CA- (in), 5 CA+ (in), 6 SD (in), 7 VSS (power), 8 COM, 9 LO3 (out), 10 LO2 (out), 11 LO1 (out), 12 VS3, 13 HO3 (out), 14 VB3, 15 VS2, 16 HO2 (out), 17 VB2, 18 VS1, 19 HO1 (out), 20 VB1, 21 VCC (power), 22 ~{{HIN1}} (in), 23 ~{{HIN2}} (in), 24 ~{{HIN3}} (in), 25 ~{{LIN1}} (in), 26 ~{{LIN2}} (in), 27 ~{{LIN3}} (in), 28 ~{{FALUT}} (out)

## IR2153
designator *  value IR2153
ki_keywords: Oscillating Gate Driver; ki_description: Self-Oscillating Half-Bridge Driver, 600V, PDIP-8/SOIC-8; ki_fp_filters: SOIC*3.9x4.9mm*P1.27mm* DIP*W7.62mm*; Supplier: https://www.infineon.com/dgdl/ir2153.pdf?fileId=5546d462533600a4015355c8c5fc16af
pins: 1 VCC (power), 2 RT, 3 CT, 4 COM (power), 5 LO (out), 6 VS, 7 HO (out), 8 VB

## IR2155
designator *  value IR2155
ki_keywords: Oscillating Gate Driver; ki_description: Self-Oscillating Half-Bridge Driver, 600V, 250/500mA, PDIP-8/SOIC-8; ki_fp_filters: SOIC*3.9x4.9mm*P1.27mm* DIP*W7.62mm*; Supplier: https://www.infineon.com/dgdl/ir2155.pdf?fileId=5546d462533600a4015355c8dec316b6
pins: 1 VCC (power), 2 RT, 3 CT, 4 COM (power), 5 LO (out), 6 VS, 7 HO (out), 8 VB

## IR2181
designator *  value IR2181
ki_keywords: Gate Driver; ki_description: High and Low Side Driver, 600V, 1.4/1.8A, PDIP-8/SOIC-8; ki_fp_filters: SOIC*3.9x4.9mm*P1.27mm* DIP*W7.62mm*; Supplier: https://www.infineon.com/dgdl/ir2181.pdf?fileId=5546d462533600a4015355c93cdd16ce
pins: 1 HIN (in), 2 LIN (in), 3 COM (power), 4 LO (out), 5 VCC (power), 6 VS, 7 HO (out), 8 VB

## IR2183
designator *  value IR2183
ki_keywords: Gate Driver; ki_description: Half-Bridge Driver, 600V, 1.4/1.8A, PDIP-8/SOIC-8; ki_fp_filters: SOIC*3.9x4.9mm*P1.27mm* DIP*W7.62mm*; Supplier: https://www.infineon.com/dgdl/ir2183.pdf?fileId=5546d462533600a4015355c9490e16d1
pins: 1 HIN (in), 2 ~{{LIN}} (in), 3 COM (power), 4 LO (out), 5 VCC (power), 6 VS, 7 HO (out), 8 VB

## IR2184
designator *  value IR2184
ki_keywords: Gate Driver; ki_description: Half-Bridge Driver, 600V, 1.4/1.8A, PDIP-8/SOIC-8; ki_fp_filters: SOIC*3.9x4.9mm*P1.27mm* DIP*W7.62mm*; Supplier: https://www.infineon.com/dgdl/ir2184.pdf?fileId=5546d462533600a4015355c955e616d4
pins: 1 IN (in), 2 ~{{SD}} (in), 3 COM (power), 4 LO (out), 5 VCC (power), 6 VS, 7 HO (out), 8 VB

## IR2213
designator *  value IR2213
ki_keywords: Gate Driver; ki_description: High and Low Side Driver, 1200V, 1.7/2.0A, PDIP-14; ki_fp_filters: DIP*W7.62mm*; Footprint: Package_DIP:DIP-14_W7.62mm; Supplier: https://www.infineon.com/dgdl/Infineon-IR2213-DS-v00_02-EN.pdf?fileId=5546d462533600a4015355c9621716d8
footprint DIP-14_W7.62mm
pins: 1 LO (out), 2 COM (power), 3 VCC (power), 4 NC (in) hidden, 5 VS, 6 VB, 7 HO (out), 8 NC (in) hidden, 9 VDD (power), 10 HIN (in), 11 SD (in), 12 LIN (in), 13 VSS (power), 14 NC (in) hidden

## IR2213S
designator *  value IR2213S
ki_keywords: Gate Driver; ki_description: High and Low Side Driver, 1200V, 1.7/2.0A, SOIC-16W; ki_fp_filters: SOIC*7.5x10.3mm*P1.27mm*; Footprint: Package_SO:SOIC-16W_7.5x10.3mm_P1.27mm; Supplier: https://www.infineon.com/dgdl/Infineon-IR2213-DS-v00_02-EN.pdf?fileId=5546d462533600a4015355c9621716d8
footprint SOIC-16W_7.5x10.3mm_P1.27mm
pins: 1 LO (out), 2 COM (power), 3 VCC (power), 4 NC (in) hidden, 5 NC (in) hidden, 6 VS, 7 VB, 8 HO (out), 9 NC (in) hidden, 10 NC (in) hidden, 11 VDD (power), 12 HIN (in), 13 SD (in), 14 LIN (in), 15 VSS (power), 16 NC (in) hidden

## IR2214S
designator *  value IR2214S
ki_keywords: Gate Driver; ki_description: Half-Bridge Gate Driver IC, 1200V, 1.0/1.5A, SSOP-24; ki_fp_filters: SSOP*5.3x8.2mm*P0.65mm*; Footprint: Package_SO:SSOP-24_5.3x8.2mm_P0.65mm; Supplier: https://www.infineon.com/dgdl/ir2114ss.pdf?fileId=5546d462533600a4015355c836cd168a
footprint SSOP-24_5.3x8.2mm_P0.65mm
pins: 1 HIN (in), 2 LIN (in), 3 FLT_CLR (in), 4 ~{{SY_FLT}} (io), 5 ~{{FAULT/SD}} (io), 6 VSS (power), 7 SSDL (in), 8 COM (power), 9 LON (out), 10 LOP (out), 11 VCC (power), 12 DSL (in), 13 NC (in) hidden, 14 NC (in) hidden, 15 NC (in) hidden, 16 NC (in) hidden, 17 NC (in) hidden, 18 SSDH (in), 19 VS, 20 HON (out), 21 HOP (out), 22 NC (in) hidden, 23 VB, 24 DSH (in)

## IR2233
designator *  value IR2233
ki_keywords: 3 Phase Gate Driver; ki_description: 1200V, Vout 10-20V, PDIP-28; ki_fp_filters: DIP*W15.24mm*; Footprint: Package_DIP:DIP-28_W15.24mm; Supplier: https://www.infineon.com/dgdl/Infineon-IR2x33-IR2x35-DataSheet-v01_00-EN.pdf?fileId=5546d462533600a4015355c890ba169f
footprint DIP-28_W15.24mm
pins: 1 ITRIP (in), 2 ~{{FLT-CLR}} (in), 3 CAO (out), 4 CA- (in), 5 CA+ (in), 6 SD (in), 7 VSS (power), 8 COM, 9 LO3 (out), 10 LO2 (out), 11 LO1 (out), 12 VS3, 13 HO3 (out), 14 VB3, 15 VS2, 16 HO2 (out), 17 VB2, 18 VS1, 19 HO1 (out), 20 VB1, 21 VCC (power), 22 ~{{HIN1}} (in), 23 ~{{HIN2}} (in), 24 ~{{HIN3}} (in), 25 ~{{LIN1}} (in), 26 ~{{LIN2}} (in), 27 ~{{LIN3}} (in), 28 ~{{FALUT}} (out)

## IR2233S
designator *  value IR2233S
ki_keywords: 3 Phase Gate Driver; ki_description: 1200V, Vout 10-20V, SOIC-28; ki_fp_filters: SOIC*7.5x17.9mm*P1.27mm*; Footprint: Package_SO:SOIC-28W_7.5x17.9mm_P1.27mm; Supplier: https://www.infineon.com/dgdl/Infineon-IR2x33-IR2x35-DataSheet-v01_00-EN.pdf?fileId=5546d462533600a4015355c890ba169f
footprint SOIC-28W_7.5x17.9mm_P1.27mm
pins: 1 ITRIP (in), 2 ~{{FLT-CLR}} (in), 3 CAO (out), 4 CA- (in), 5 CA+ (in), 6 SD (in), 7 VSS (power), 8 COM, 9 LO3 (out), 10 LO2 (out), 11 LO1 (out), 12 VS3, 13 HO3 (out), 14 VB3, 15 VS2, 16 HO2 (out), 17 VB2, 18 VS1, 19 HO1 (out), 20 VB1, 21 VCC (power), 22 ~{{HIN1}} (in), 23 ~{{HIN2}} (in), 24 ~{{HIN3}} (in), 25 ~{{LIN1}} (in), 26 ~{{LIN2}} (in), 27 ~{{LIN3}} (in), 28 ~{{FALUT}} (out)

## IR2235
designator *  value IR2235
ki_keywords: 3 Phase Gate Driver; ki_description: 1200V, Vout 12-20V, PDIP-28; ki_fp_filters: DIP*W15.24mm*; Footprint: Package_DIP:DIP-28_W15.24mm; Supplier: https://www.infineon.com/dgdl/Infineon-IR2x33-IR2x35-DataSheet-v01_00-EN.pdf?fileId=5546d462533600a4015355c890ba169f
footprint DIP-28_W15.24mm
pins: 1 ITRIP (in), 2 ~{{FLT-CLR}} (in), 3 CAO (out), 4 CA- (in), 5 CA+ (in), 6 SD (in), 7 VSS (power), 8 COM, 9 LO3 (out), 10 LO2 (out), 11 LO1 (out), 12 VS3, 13 HO3 (out), 14 VB3, 15 VS2, 16 HO2 (out), 17 VB2, 18 VS1, 19 HO1 (out), 20 VB1, 21 VCC (power), 22 ~{{HIN1}} (in), 23 ~{{HIN2}} (in), 24 ~{{HIN3}} (in), 25 ~{{LIN1}} (in), 26 ~{{LIN2}} (in), 27 ~{{LIN3}} (in), 28 ~{{FALUT}} (out)

## IR2235S
designator *  value IR2235S
ki_keywords: 3 Phase Gate Driver; ki_description: 1200V, Vout 12-20V, SOIC-28; ki_fp_filters: SOIC*7.5x17.9mm*P1.27mm*; Footprint: Package_SO:SOIC-28W_7.5x17.9mm_P1.27mm; Supplier: https://www.infineon.com/dgdl/Infineon-IR2x33-IR2x35-DataSheet-v01_00-EN.pdf?fileId=5546d462533600a4015355c890ba169f
footprint SOIC-28W_7.5x17.9mm_P1.27mm
pins: 1 ITRIP (in), 2 ~{{FLT-CLR}} (in), 3 CAO (out), 4 CA- (in), 5 CA+ (in), 6 SD (in), 7 VSS (power), 8 COM, 9 LO3 (out), 10 LO2 (out), 11 LO1 (out), 12 VS3, 13 HO3 (out), 14 VB3, 15 VS2, 16 HO2 (out), 17 VB2, 18 VS1, 19 HO1 (out), 20 VB1, 21 VCC (power), 22 ~{{HIN1}} (in), 23 ~{{HIN2}} (in), 24 ~{{HIN3}} (in), 25 ~{{LIN1}} (in), 26 ~{{LIN2}} (in), 27 ~{{LIN3}} (in), 28 ~{{FALUT}} (out)

## IR2301
designator *  value IR2301
ki_keywords: Gate Driver; ki_description: High and Low Side Driver, 600V, 200/350mA, PDIP-8/SOIC-8; ki_fp_filters: SOIC*3.9x4.9mm*P1.27mm* DIP*W7.62mm*; Supplier: https://www.infineon.com/dgdl/ir2301.pdf?fileId=5546d462533600a4015355c97bb216dc
pins: 1 VCC (power), 2 HIN (in), 3 LIN (in), 4 COM (power), 5 LO (out), 6 VS, 7 HO (out), 8 VB

## IR2302
designator *  value IR2302
ki_keywords: Gate Driver; ki_description: Half-Bridge Driver, 600V, 200/350mA, PDIP-8/SOIC-8; ki_fp_filters: SOIC*3.9x4.9mm*P1.27mm* DIP*W7.62mm*; Supplier: https://www.infineon.com/dgdl/ir2302.pdf?fileId=5546d462533600a4015355c988b216de
pins: 1 VCC (power), 2 IN (in), 3 ~{{SD}} (in), 4 COM (power), 5 LO (out), 6 VS, 7 HO (out), 8 VB

## IR2304
designator *  value IR2304
ki_keywords: Gate Driver; ki_description: Half-Bridge Driver, 600V, 60/130mA, PDIP-8/SOIC-8; ki_fp_filters: SOIC*3.9x4.9mm*P1.27mm* DIP*W7.62mm*; Supplier: https://www.infineon.com/dgdl/ir2304.pdf?fileId=5546d462533600a4015355c9954a16e0
pins: 1 LIN (in), 2 HIN (in), 3 VCC (power), 4 COM (power), 5 LO (out), 6 VS, 7 HO (out), 8 VB

## IR2308
designator *  value IR2308
ki_keywords: Gate Driver; ki_description: Half-Bridge Driver, 600V, 200/350mA, PDIP-8/SOIC-8; ki_fp_filters: SOIC*3.9x4.9mm*P1.27mm* DIP*W7.62mm*; Supplier: https://www.infineon.com/dgdl/ir2308.pdf?fileId=5546d462533600a4015355c9a2b816e2
pins: 1 VCC (power), 2 HIN (in), 3 LIN (in), 4 COM (power), 5 LO (out), 6 VS, 7 HO (out), 8 VB

## IR7106S
designator *  value IR7106S
ki_keywords: Gate Driver; ki_description: High and Low Side Driver, 700V, 200/350mA, SOIC-8; ki_fp_filters: SOIC*3.9x4.9mm*P1.27mm*; Footprint: Package_SO:SOIC-8_3.9x4.9mm_P1.27mm; Supplier: https://www.infineon.com/dgdl/ir7106s.pdf?fileId=5546d462533600a4015355d61a06182a
footprint SOIC-8_3.9x4.9mm_P1.27mm
pins: 1 VCC (power), 2 HIN (in), 3 LIN (in), 4 COM (power), 5 LO (out), 6 VS, 7 HO (out), 8 VB

## IR7184S
designator *  value IR7184S
ki_keywords: Gate Driver; ki_description: 700V Half-Bridge Driver, 1.9/2.3A, SOIC-8; ki_fp_filters: SOIC*3.9x4.9mm*P1.27mm*; Footprint: Package_SO:SOIC-8_3.9x4.9mm_P1.27mm; Supplier: https://www.infineon.com/dgdl/ir7184s.pdf?fileId=5546d462533600a4015355d62230182c
footprint SOIC-8_3.9x4.9mm_P1.27mm
pins: 1 IN (in), 2 ~{{SD}} (in), 3 COM (power), 4 LO (out), 5 VCC (power), 6 VS, 7 HO (out), 8 VB

## IR7304S
designator *  value IR7304S
ki_keywords: Gate Driver; ki_description: 700V Half-Bridge Driver, 60/130mA, SOIC-8; ki_fp_filters: SOIC*3.9x4.9mm*P1.27mm*; Footprint: Package_SO:SOIC-8_3.9x4.9mm_P1.27mm; Supplier: https://www.infineon.com/dgdl/ir7304s.pdf?fileId=5546d462533600a4015355d62a63182e
footprint SOIC-8_3.9x4.9mm_P1.27mm
pins: 1 LIN (in), 2 HIN (in), 3 VCC (power), 4 COM (power), 5 LO (out), 6 VS, 7 HO (out), 8 VB

## IR21064
designator *  value IR21064
ki_keywords: Gate Driver; ki_description: High and Low Side Driver, 600V, 200/350mA, PDIP-14/SOIC-14; ki_fp_filters: SOIC*3.9x8.7mm*P1.27mm* DIP*W7.62mm*; Supplier: https://www.infineon.com/dgdl/ir2106.pdf?fileId=5546d462533600a4015355c7cfc51673
pins: 1 VCC (power), 2 HIN (in), 3 LIN (in), 4 NC (in) hidden, 5 VSS (power), 6 COM (power), 7 LO (out), 8 NC (in) hidden, 9 NC (in) hidden, 10 NC (in) hidden, 11 VS, 12 HO (out), 13 VB, 14 NC (in) hidden

## IR21084
designator *  value IR21084
ki_keywords: Gate Driver; ki_description: Half-Bridge Driver, 600V, 210/350mA, PDIP-14/SOIC-14; ki_fp_filters: SOIC*3.9x8.7mm*P1.27mm* DIP*W7.62mm*; Supplier: https://www.infineon.com/dgdl/ir2108.pdf?fileId=5546d462533600a4015355c7dc321676
pins: 1 VCC (power), 2 HIN (in), 3 ~{{LIN}} (in), 4 DT (in), 5 VSS (power), 6 COM (power), 7 LO (out), 8 NC (in) hidden, 9 NC (in) hidden, 10 NC (in) hidden, 11 VS, 12 HO (out), 13 VB, 14 NC (in) hidden

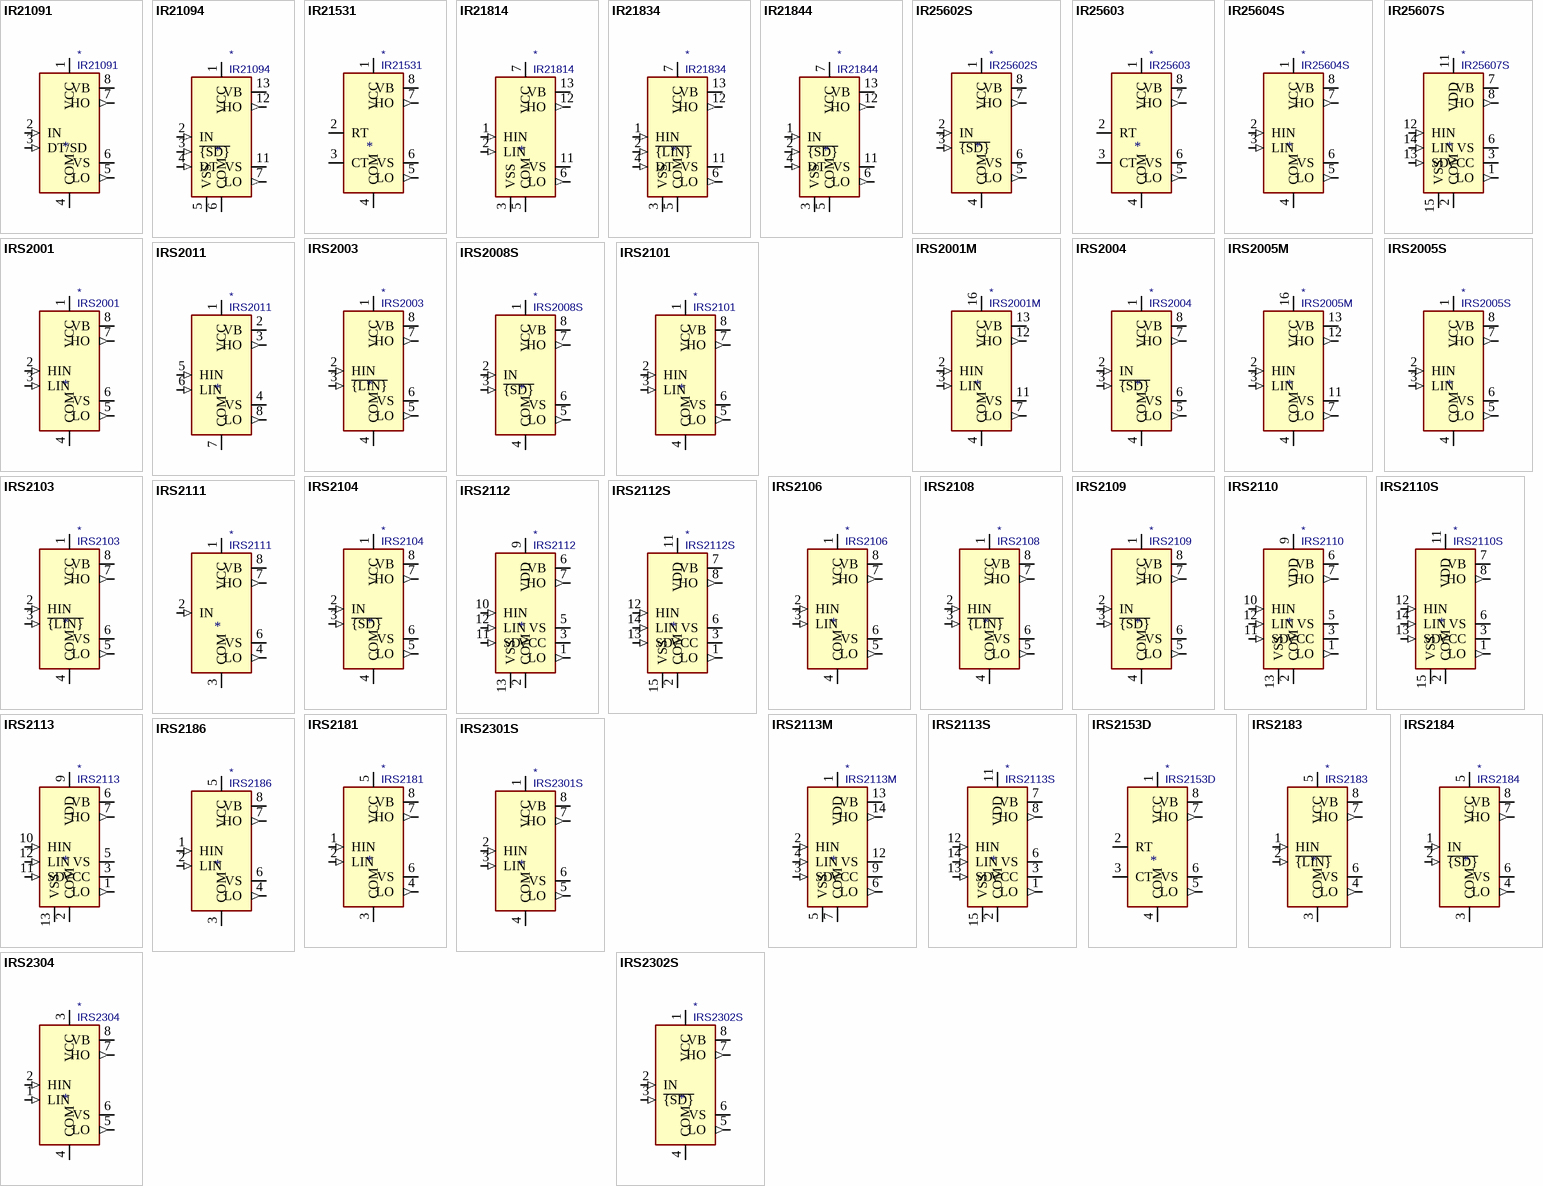
[diagram p2: symbols IR21091 to IRS2304]

## IR21091
designator *  value IR21091
ki_keywords: Gate Driver; ki_description: Half-Bridge Driver, 600V, 200/350mA, PDIP-8/SOIC-8; ki_fp_filters: SOIC*3.9x4.9mm*P1.27mm* DIP*W7.62mm*; Supplier: https://www.infineon.com/dgdl/ir21091.pdf?fileId=5546d462533600a4015355c7f66f167c
pins: 1 VCC (power), 2 IN (in), 3 DT/SD (in), 4 COM (power), 5 LO (out), 6 VS, 7 HO (out), 8 VB

## IR21094
designator *  value IR21094
ki_keywords: Gate Driver; ki_description: Half-Bridge Driver, 600V, 200/350mA, PDIP-14/SOIC-14; ki_fp_filters: SOIC*3.9x8.7mm*P1.27mm* DIP*W7.62mm*; Supplier: https://www.infineon.com/dgdl/ir2109.pdf?fileId=5546d462533600a4015355c7e85b1679
pins: 1 VCC (power), 2 IN (in), 3 ~{{SD}} (in), 4 DT (in), 5 VSS (power), 6 COM (power), 7 LO (out), 8 NC (in) hidden, 9 NC (in) hidden, 10 NC (in) hidden, 11 VS, 12 HO (out), 13 VB, 14 NC (in) hidden

## IR21531
designator *  value IR21531
ki_keywords: Oscillating Gate Driver; ki_description: Self-Oscillating Half-Bridge Driver, 600V, PDIP-8/SOIC-8; ki_fp_filters: SOIC*3.9x4.9mm*P1.27mm* DIP*W7.62mm*; Supplier: https://www.infineon.com/dgdl/ir21531.pdf?fileId=5546d462533600a4015355c8d26316b3
pins: 1 VCC (power), 2 RT, 3 CT, 4 COM (power), 5 LO (out), 6 VS, 7 HO (out), 8 VB

## IR21814
designator *  value IR21814
ki_keywords: Gate Driver; ki_description: High and Low Side Driver, 600V, 1.4/1.8A, PDIP-14/SOIC-14; ki_fp_filters: SOIC*3.9x8.7mm*P1.27mm* DIP*W7.62mm*; Supplier: https://www.infineon.com/dgdl/ir2181.pdf?fileId=5546d462533600a4015355c93cdd16ce
pins: 1 HIN (in), 2 LIN (in), 3 VSS (power), 4 NC (in) hidden, 5 COM (power), 6 LO (out), 7 VCC (power), 8 NC (in) hidden, 9 NC (in) hidden, 10 NC (in) hidden, 11 VS, 12 HO (out), 13 VB, 14 NC (in) hidden

## IR21834
designator *  value IR21834
ki_keywords: Gate Driver; ki_description: Half-Bridge Driver, 600V, 1.4/1.8A, PDIP-14/SOIC-14; ki_fp_filters: SOIC*3.9x8.7mm*P1.27mm* DIP*W7.62mm*; Supplier: https://www.infineon.com/dgdl/ir2183.pdf?fileId=5546d462533600a4015355c9490e16d1
pins: 1 HIN (in), 2 ~{{LIN}} (in), 3 VSS (power), 4 DT (in), 5 COM (power), 6 LO (out), 7 VCC (power), 8 NC (in) hidden, 9 NC (in) hidden, 10 NC (in) hidden, 11 VS, 12 HO (out), 13 VB, 14 NC (in) hidden

## IR21844
designator *  value IR21844
ki_keywords: Gate Driver; ki_description: Half-Bridge Driver, 600V, 1.4/1.8A, PDIP-14/SOIC-14; ki_fp_filters: SOIC*3.9x8.7mm*P1.27mm* DIP*W7.62mm*; Supplier: https://www.infineon.com/dgdl/ir2184.pdf?fileId=5546d462533600a4015355c955e616d4
pins: 1 IN (in), 2 ~{{SD}} (in), 3 VSS (power), 4 DT (in), 5 COM (power), 6 LO (out), 7 VCC (power), 8 NC (in) hidden, 9 NC (in) hidden, 10 NC (in) hidden, 11 VS, 12 HO (out), 13 VB, 14 NC (in) hidden

## IR25602S
designator *  value IR25602S
ki_keywords: Gate Driver; ki_description: Half-Bridge Driver, 600V, 210/360mA, PDIP-8/SOIC-8; ki_fp_filters: SOIC*3.9x4.9mm*P1.27mm*; Footprint: Package_SO:SOIC-8_3.9x4.9mm_P1.27mm; Supplier: https://www.infineon.com/dgdl/ir25602.pdf?fileId=5546d462533600a4015355c9d6c216eb
footprint SOIC-8_3.9x4.9mm_P1.27mm
pins: 1 VCC (power), 2 IN (in), 3 ~{{SD}} (in), 4 COM (power), 5 LO (out), 6 VS, 7 HO (out), 8 VB

## IR25603
designator *  value IR25603
ki_keywords: Oscillating Gate Driver; ki_description: Self-Oscillating Half-Bridge Driver, 600V, 180/260mA, PDIP-8/SOIC-8; ki_fp_filters: SOIC*3.9x4.9mm*P1.27mm* DIP*W7.62mm*; Supplier: https://www.infineon.com/dgdl/ir25603.pdf?fileId=5546d462533600a4015355c9e46716ef
pins: 1 VCC (power), 2 RT, 3 CT, 4 COM (power), 5 LO (out), 6 VS, 7 HO (out), 8 VB

## IR25604S
designator *  value IR25604S
ki_keywords: Gate Driver; ki_description: High and Low Side Driver, 600V, 200/350mA, SOIC-8; ki_fp_filters: SOIC*3.9x4.9mm*P1.27mm*; Footprint: Package_SO:SOIC-8_3.9x4.9mm_P1.27mm; Supplier: https://www.infineon.com/dgdl/ir25604.pdf?fileId=5546d462533600a4015355c9f1ca16f1
footprint SOIC-8_3.9x4.9mm_P1.27mm
pins: 1 VCC (power), 2 HIN (in), 3 LIN (in), 4 COM (power), 5 LO (out), 6 VS, 7 HO (out), 8 VB

## IR25607S
designator *  value IR25607S
ki_keywords: Gate Driver; ki_description: High and Low Side Driver, 600V, 2.0/2.0A, SOIC-16W; ki_fp_filters: SOIC*7.5x10.3mm*P1.27mm*; Footprint: Package_SO:SOIC-16W_7.5x10.3mm_P1.27mm; Supplier: https://www.infineon.com/dgdl/ir25607.pdf?fileId=5546d462533600a4015355ca0e7916f5
footprint SOIC-16W_7.5x10.3mm_P1.27mm
pins: 1 LO (out), 2 COM (power), 3 VCC (power), 4 NC (in) hidden, 5 NC (in) hidden, 6 VS, 7 VB, 8 HO (out), 9 NC (in) hidden, 10 NC (in) hidden, 11 VDD (power), 12 HIN (in), 13 SD (in), 14 LIN (in), 15 VSS (power), 16 NC (in) hidden

## IRS2001
designator *  value IRS2001
ki_keywords: Gate Driver; ki_description: High and Low Side Driver, 200V, 200/420mA, PDIP-8/SOIC-8; ki_fp_filters: SOIC*3.9x4.9mm*P1.27mm* DIP*W7.62mm*; Supplier: https://www.infineon.com/dgdl/irs2001pbf.pdf?fileId=5546d462533600a401535675a760277e
pins: 1 VCC (power), 2 HIN (in), 3 LIN (in), 4 COM (power), 5 LO (out), 6 VS, 7 HO (out), 8 VB

## IRS2001M
designator *  value IRS2001M
ki_keywords: Gate Driver; ki_description: High and Low Side Driver, 200V, 290/600mA, MLPQ-14; ki_fp_filters: Infineon*MLPQ*EP*4x4mm*P0.5mm*; Footprint: Package_DFN_QFN:Infineon_MLPQ-16-14-1EP_4x4mm_P0.5mm; Supplier: https://www.infineon.com/dgdl/irs2001mpbf.pdf?fileId=5546d462533600a4015356759e20277c
footprint Infineon_MLPQ-16-14-1EP_4x4mm_P0.5mm
pins: 1 NC (in) hidden, 2 HIN (in), 3 LIN (in), 4 COM (power), 5 NC (in) hidden, 6 NC (in) hidden, 7 LO (out), 8 NC (in) hidden, 9 NC (in) hidden, 11 VS, 12 HO (out), 13 VB, 14 NC (in) hidden, 16 VCC (power), 17 COM hidden

## IRS2003
designator *  value IRS2003
ki_keywords: Gate Driver; ki_description: Half-Bridge Driver, 200V, 290/600mA, PDIP-8/SOIC-8; ki_fp_filters: SOIC*3.9x4.9mm*P1.27mm* DIP*W7.62mm*; Supplier: https://www.infineon.com/dgdl/irs2003pbf.pdf?fileId=5546d462533600a401535675afec2780
pins: 1 VCC (power), 2 HIN (in), 3 ~{{LIN}} (in), 4 COM (power), 5 LO (out), 6 VS, 7 HO (out), 8 VB

## IRS2004
designator *  value IRS2004
ki_keywords: Gate Driver; ki_description: Half-Bridge Driver, 200V, 290/600mA, PDIP-8/SOIC-8; ki_fp_filters: SOIC*3.9x4.9mm*P1.27mm* DIP*W7.62mm*; Supplier: https://www.infineon.com/dgdl/irs2004pbf.pdf?fileId=5546d462533600a401535675b86b2782
pins: 1 VCC (power), 2 IN (in), 3 ~{{SD}} (in), 4 COM (power), 5 LO (out), 6 VS, 7 HO (out), 8 VB

## IRS2005M
designator *  value IRS2005M
ki_keywords: Gate Driver; ki_description: High and Low Side Driver, 200V, 290/600mA, MLPQ-14; ki_fp_filters: Infineon*MLPQ*EP*4x4mm*P0.5mm*; Footprint: Package_DFN_QFN:Infineon_MLPQ-16-14-1EP_4x4mm_P0.5mm; Supplier: https://www.infineon.com/dgdl/Infineon-IRS2005S-DS-v02_00-EN.pdf?fileId=5546d462533600a4015364c4246229e1
footprint Infineon_MLPQ-16-14-1EP_4x4mm_P0.5mm
pins: 1 NC (in) hidden, 2 HIN (in), 3 LIN (in), 4 COM (power), 5 NC (in) hidden, 6 NC (in) hidden, 7 LO (out), 8 NC (in) hidden, 9 NC (in) hidden, 11 VS, 12 HO (out), 13 VB, 14 NC (in) hidden, 16 VCC (power), 17 COM hidden

## IRS2005S
designator *  value IRS2005S
ki_keywords: Gate Driver; ki_description: High and Low Side Driver, 200V, 290/600mA, SOIC-8; ki_fp_filters: SOIC*3.9x4.9mm*P1.27mm*; Footprint: Package_SO:SOIC-8_3.9x4.9mm_P1.27mm; Supplier: https://www.infineon.com/dgdl/Infineon-IRS2005S-DS-v02_00-EN.pdf?fileId=5546d462533600a4015364c4246229e1
footprint SOIC-8_3.9x4.9mm_P1.27mm
pins: 1 VCC (power), 2 HIN (in), 3 LIN (in), 4 COM (power), 5 LO (out), 6 VS, 7 HO (out), 8 VB

## IRS2008S
designator *  value IRS2008S
ki_keywords: Gate Driver; ki_description: 200-V Half-Bridge Driver With Shutdown Input, 200V, 290/600mA, SOIC-8; ki_fp_filters: SOIC*3.9x4.9mm*P1.27mm*; Footprint: Package_SO:SOIC-8_3.9x4.9mm_P1.27mm; Supplier: https://www.infineon.com/dgdl/Infineon-IRS2008S-DS-v01_00-EN.pdf?fileId=5546d46259d9a4bf015a3e76b6361c1a
footprint SOIC-8_3.9x4.9mm_P1.27mm
pins: 1 VCC (power), 2 IN (in), 3 ~{{SD}} (in), 4 COM (power), 5 LO (out), 6 VS, 7 HO (out), 8 VB

## IRS2011
designator *  value IRS2011
ki_keywords: Gate Driver; ki_description: High and Low Side Driver, 200V, 1.0/1.0A, PDIP-8/SOIC-8; ki_fp_filters: SOIC*3.9x4.9mm*P1.27mm* DIP*W7.62mm*; Supplier: https://www.infineon.com/dgdl/irs2011pbf.pdf?fileId=5546d462533600a401535675c19f2784
pins: 1 VCC (power), 2 VB, 3 HO (out), 4 VS, 5 HIN (in), 6 LIN (in), 7 COM (power), 8 LO (out)

## IRS2101
designator *  value IRS2101
ki_keywords: Gate Driver; ki_description: High and Low Side Driver, 600V, 290/600mA, PDIP-8/SOIC-8; ki_fp_filters: SOIC*3.9x4.9mm*P1.27mm* DIP*W7.62mm*; Supplier: https://www.infineon.com/dgdl/ir2101.pdf?fileId=5546d462533600a4015355c7a755166c
pins: 1 VCC (power), 2 HIN (in), 3 LIN (in), 4 COM (power), 5 LO (out), 6 VS, 7 HO (out), 8 VB